# Altium schematic symbol library ADP1714AUJZ-3.3-R7.SchLib: 1 symbol
Pins are listed as number, name and electrical type; pins without a type are passive.

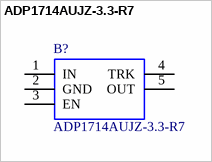
[diagram p0: symbol ADP1714AUJZ-3.3-R7]

## ADP1714AUJZ-3.3-R7
designator B?
300 mA, Low Dropout CMOS Linear Regulator; Manufacturer_Name: Analog Devices; Manufacturer_Part_Number: ADP1714AUJZ-3.3-R7; RS Part Number: *; RS Price/Stock: *; Arrow Part Number: ADP1714AUJZ-3.3-R7; Arrow Price/Stock: *; Datasheet Link: *
footprint SOT95P280X100-5N
pins: 1 IN, 2 GND, 3 EN, 4 TRK, 5 OUT